# Altium footprint library PcbLib1.PcbLib: 22 footprints (part 1 of 2)
Each footprint in its own frame and in the unit in brackets; x right, y up, seen from the top. Pads: shape width x height; smd on the part's side, far side on the other; paste and mask are expansions set on the pad; w line width, h text height; cw(c..) or ccw(c..) is an arc to the next point about the centre after c.
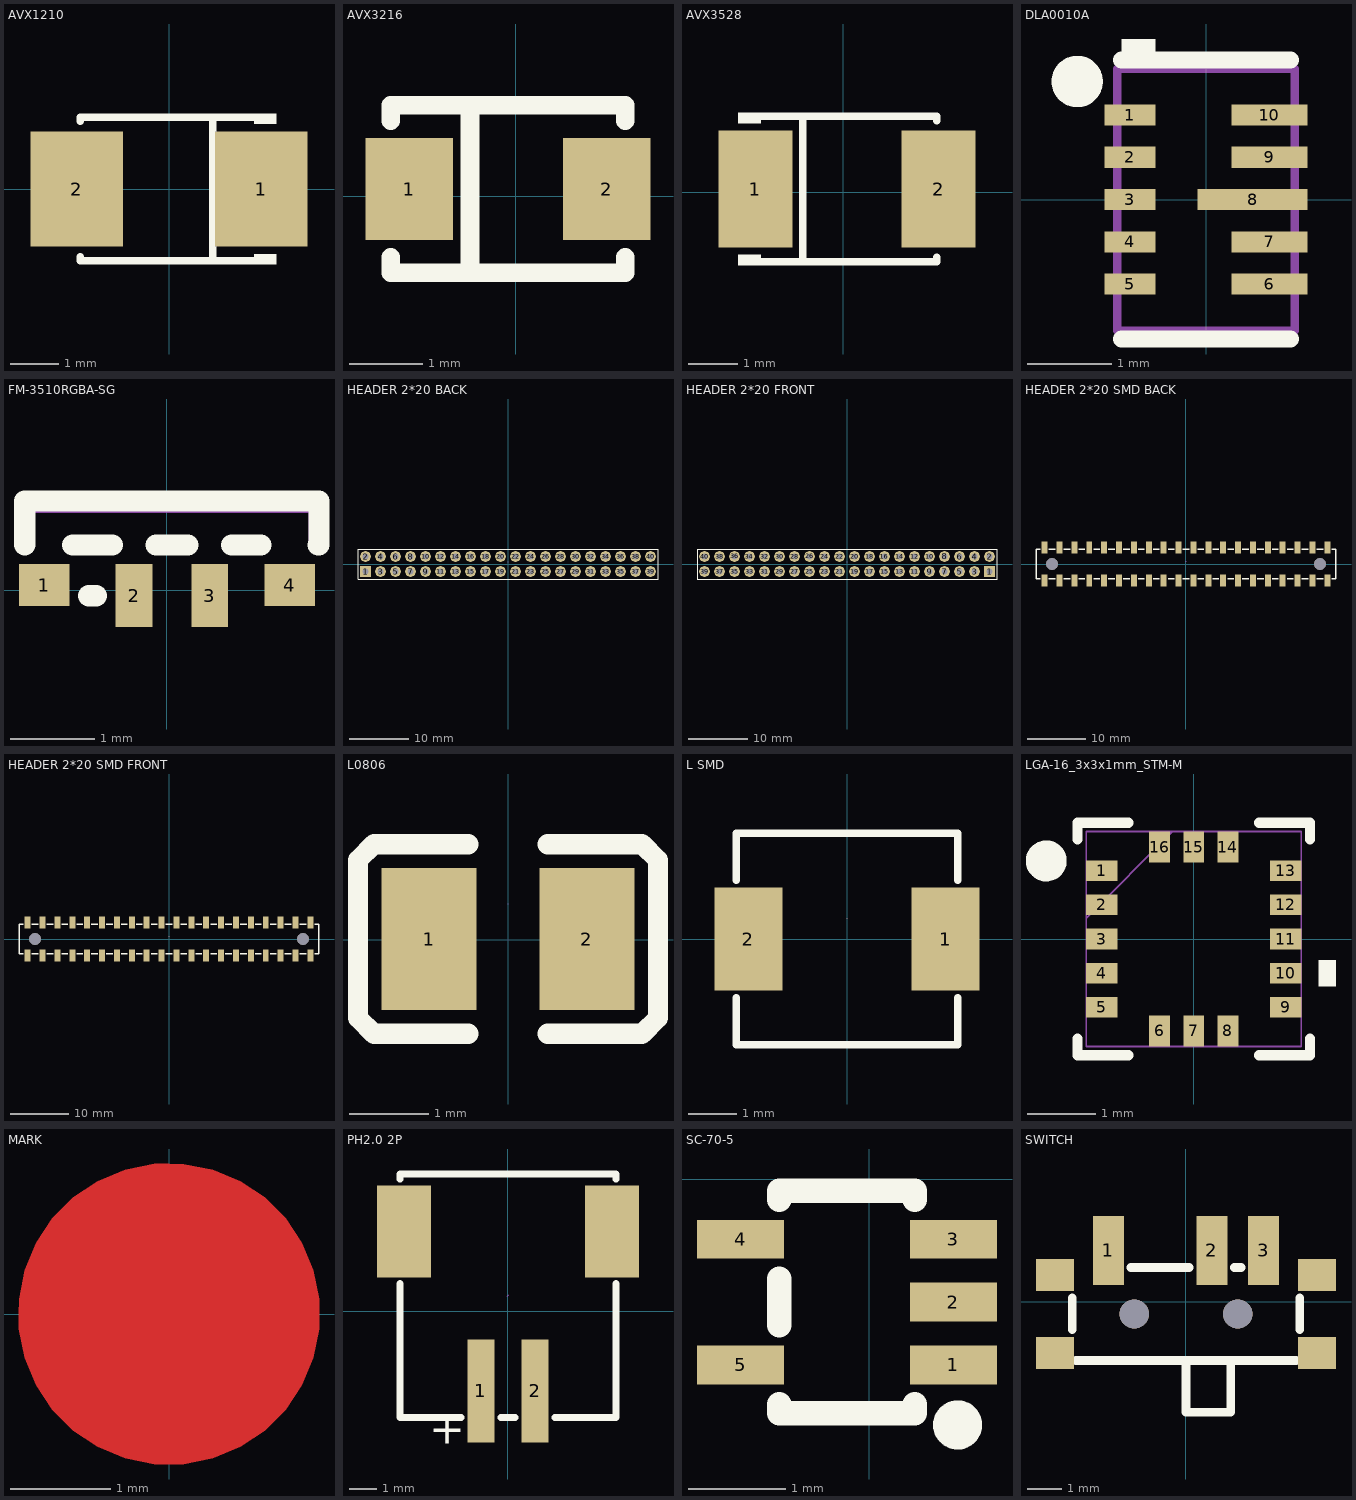
[diagram p0: the footprints below, top view; thin cyan lines are the x and y axes]

## AVX1210 [mm] "https://item.szlcsc.com/22760.html"
pads (2):
  rect 1.9x2.376 smd: 1(1.899,0) 2(-1.899,0)
Top Overlay:
  region: 1.75,1.552 1.75,1.34 2.207,1.34 2.207,1.552
  region: 1.75,-1.552 1.75,-1.34 2.207,-1.34 2.207,-1.552
  lines w0.152: -1.826,-1.391 -1.826,-1.476 1.826,-1.476 ; -1.826,1.391 -1.826,1.476 1.826,1.476 ; 0.904,-1.476 0.904,1.476

## AVX3216 [mm] "https://item.szlcsc.com/269055.html"
pads (2):
  rect 1.2x1.4 smd: 1(-1.456,0.101) 2(1.244,0.101)
Top Overlay:
  lines w0.254: -1.706,-0.83 -1.706,-1.042 -0.234,-1.042 1.494,-1.042 1.494,-0.83 ; -1.706,1.032 -1.706,1.244 1.494,1.244 1.494,1.032 ; -0.626,-1.042 -0.626,1.244

## AVX3528 [mm]
pads (2):
  rect 1.506x2.376 smd: 1(-1.781,0.07) 2(1.94,0.07)
Top Overlay:
  region: -1.671,1.623 -1.671,1.411 -2.128,1.411 -2.128,1.623
  region: -1.671,-1.482 -1.671,-1.27 -2.128,-1.27 -2.128,-1.482
  lines w0.152: -1.747,-1.406 1.906,-1.406 1.906,-1.321 ; -1.747,1.547 1.906,1.547 1.906,1.462 ; -0.825,-1.406 -0.825,1.547

## DLA0010A [mm]
pads (10):
  rect 0.6x0.25 smd paste+0 mask+0: 1(-0.9,1) 2(-0.9,0.5) 3(-0.9,0) 4(-0.9,-0.5) 5(-0.9,-1)
  rect 0.9x0.25 smd paste+0 mask+0: 6(0.75,-1) 7(0.75,-0.5) 9(0.75,0.5) 10(0.75,1)
  rect 1.3x0.25 smd paste-0.637 mask+0: 8(0.55,0)
Top Overlay:
  circle w0.308: c-1.524,1.397 r0.15
  region: -1,1.9 -1,1.65 -0.6,1.65 -0.6,1.9
  lines w0.2: -1,-1.65 1,-1.65 ; -1,1.65 1,1.65
Top Paste:
  region: -0.05,-0.125 -0.1,-0.075 -0.1,0.075 -0.05,0.125 0.4,0.125 0.45,0.075 0.45,-0.075 0.4,-0.125
  region: 0.7,-0.125 0.65,-0.075 0.65,0.075 0.7,0.125 1.15,0.125 1.2,0.075 1.2,-0.075 1.15,-0.125
Mechanical 13:
  lines w0.1: -1.05,-1.55 1.05,-1.55 1.05,1.55 -1.05,1.55 -1.05,-1.55

## FM-3510RGBA-SG [mm] "https://item.szlcsc.com/775226.html"
pads (4):
  rect 0.6x0.5 smd: 1(-1.46,0.062) 4(1.46,0.062)
  rect 0.44x0.75 smd: 2(-0.39,-0.062) 3(0.51,-0.062)
Top Overlay:
  lines w0.254: -1.69,0.543 -1.69,0.908 -1.69,1.063 1.81,1.062 1.81,0.538 1.799,0.538 ; -1.121,0.538 -0.65,0.538 ; -0.929,-0.065 -0.841,-0.065 ; -0.13,0.538 0.25,0.538 ; 0.77,0.538 1.121,0.538
Mechanical 15:
  region: 1.75,0.54 1.75,0.97 -1.75,0.97 -1.75,0.54 -1.71,0.54 -1.71,0.92 1.69,0.92 1.69,0.54

## HEADER 2*20 BACK [mm] "https://item.szlcsc.com/2784386.html"
pads (40):
  rect 1.8x1.8 hole 1.1: 1(-24.13,-1.27)
  round 1.8 hole 1.1: 2(-24.13,1.27) 3(-21.59,-1.27) 4(-21.59,1.27) 5(-19.05,-1.27) 6(-19.05,1.27) 7(-16.51,-1.27) 8(-16.51,1.27) 9(-13.97,-1.27) 10(-13.97,1.27) 11(-11.43,-1.27) 12(-11.43,1.27) 13(-8.89,-1.27) 14(-8.89,1.27) 15(-6.35,-1.27) 16(-6.35,1.27) 17(-3.81,-1.27) 18(-3.81,1.27) 19(-1.27,-1.27) 20(-1.27,1.27) 21(1.27,-1.27) 22(1.27,1.27) 23(3.81,-1.27) 24(3.81,1.27) 25(6.35,-1.27) 26(6.35,1.27) 27(8.89,-1.27) 28(8.89,1.27) 29(11.43,-1.27) 30(11.43,1.27) 31(13.97,-1.27) 32(13.97,1.27) 33(16.51,-1.27) 34(16.51,1.27) 35(19.05,-1.27) 36(19.05,1.27) 37(21.59,-1.27) 38(21.59,1.27) 39(24.13,-1.27) 40(24.13,1.27)
Top Overlay:
  lines w0.203: -25.4,-2.54 -25.4,2.54 25.4,2.54 25.4,-2.54 -25.4,-2.54
Mechanical 15:
  lines w0.003: 0,0.362 0,0.362

## HEADER 2*20 FRONT [mm] "https://item.szlcsc.com/2784386.html"
pads (40):
  rect 1.8x1.8 hole 1.1: 1(24.13,-1.27)
  round 1.8 hole 1.1: 2(24.13,1.27) 3(21.59,-1.27) 4(21.59,1.27) 5(19.05,-1.27) 6(19.05,1.27) 7(16.51,-1.27) 8(16.51,1.27) 9(13.97,-1.27) 10(13.97,1.27) 11(11.43,-1.27) 12(11.43,1.27) 13(8.89,-1.27) 14(8.89,1.27) 15(6.35,-1.27) 16(6.35,1.27) 17(3.81,-1.27) 18(3.81,1.27) 19(1.27,-1.27) 20(1.27,1.27) 21(-1.27,-1.27) 22(-1.27,1.27) 23(-3.81,-1.27) 24(-3.81,1.27) 25(-6.35,-1.27) 26(-6.35,1.27) 27(-8.89,-1.27) 28(-8.89,1.27) 29(-11.43,-1.27) 30(-11.43,1.27) 31(-13.97,-1.27) 32(-13.97,1.27) 33(-16.51,-1.27) 34(-16.51,1.27) 35(-19.05,-1.27) 36(-19.05,1.27) 37(-21.59,-1.27) 38(-21.59,1.27) 39(-24.13,-1.27) 40(-24.13,1.27)
Top Overlay:
  lines w0.203: -25.4,-2.54 -25.4,2.54 25.4,2.54 25.4,-2.54 -25.4,-2.54
Mechanical 15:
  lines w0.003: 0,0.362 0,0.362

## HEADER 2*20 SMD BACK [mm] "https://item.szlcsc.com/2784386.html"
pads (42):
  rect 1.02x2 smd: 1(-24.13,-2.8) 2(-24.13,2.8) 3(-21.59,-2.8) 4(-21.59,2.8) 5(-19.05,-2.8) 6(-19.05,2.8) 7(-16.51,-2.8) 8(-16.51,2.8) 9(-13.97,-2.8) 10(-13.97,2.8) 11(-11.43,-2.8) 12(-11.43,2.8) 13(-8.89,-2.8) 14(-8.89,2.8) 15(-6.35,-2.8) 16(-6.35,2.8) 17(-3.81,-2.8) 18(-3.81,2.8) 19(-1.27,-2.8) 20(-1.27,2.8) 21(1.27,-2.8) 22(1.27,2.8) 23(3.81,-2.8) 24(3.81,2.8) 25(6.35,-2.8) 26(6.35,2.8) 27(8.89,-2.8) 28(8.89,2.8) 29(11.43,-2.8) 30(11.43,2.8) 31(13.97,-2.8) 32(13.97,2.8) 33(16.51,-2.8) 34(16.51,2.8) 35(19.05,-2.8) 36(19.05,2.8) 37(21.59,-2.8) 38(21.59,2.8) 39(24.13,-2.8) 40(24.13,2.8)
  round 2 hole 2 unplated: ""(-22.86,0) ""(22.86,0)
Top Overlay:
  lines w0.254: -24.871,-2.54 -25.6,-2.54 -25.6,2.54 -24.871,2.54 ; -23.389,-2.54 -22.331,-2.54 ; -23.389,2.54 -22.331,2.54 ; -20.849,-2.54 -19.791,-2.54 ; -20.849,2.54 -19.791,2.54 ; -18.309,-2.54 -17.251,-2.54 ; -18.309,2.54 -17.251,2.54 ; -15.769,-2.54 -14.711,-2.54 ; -15.769,2.54 -14.711,2.54 ; -13.229,-2.54 -12.171,-2.54 ; -13.229,2.54 -12.171,2.54 ; -10.689,-2.54 -9.631,-2.54 ; -10.689,2.54 -9.631,2.54 ; -8.149,-2.54 -7.091,-2.54 ; -8.149,2.54 -7.091,2.54 ; -5.609,-2.54 -4.551,-2.54 ; -5.609,2.54 -4.551,2.54 ; -3.069,-2.54 -2.011,-2.54 ; -3.069,2.54 -2.011,2.54 ; -0.529,-2.54 0.529,-2.54 ; -0.529,2.54 0.529,2.54 ; 2.011,-2.54 3.069,-2.54 ; 2.011,2.54 3.069,2.54 ; 4.551,-2.54 5.609,-2.54 ; 4.551,2.54 5.609,2.54 ; 7.091,-2.54 8.149,-2.54 ; 7.091,2.54 8.149,2.54 ; 9.631,-2.54 10.689,-2.54 ; 9.631,2.54 10.689,2.54 ; 12.171,-2.54 13.229,-2.54 ; 12.171,2.54 13.229,2.54 ; 14.711,-2.54 15.769,-2.54 ; 14.711,2.54 15.769,2.54 ; 17.251,-2.54 18.309,-2.54 ; 17.251,2.54 18.309,2.54 ; 19.791,-2.54 20.849,-2.54 ; 19.791,2.54 20.849,2.54 ; 22.331,-2.54 23.389,-2.54 ; 22.331,2.54 23.389,2.54 ; 24.871,-2.54 25.6,-2.54 25.6,2.54 ; 24.871,2.54 25.6,2.54
Mechanical 15:
  lines w0.003: 0,0.46 0,0.46

## HEADER 2*20 SMD FRONT [mm] "https://item.szlcsc.com/2784386.html"
pads (42):
  rect 1.02x2 smd: 1(24.13,-2.8) 2(24.13,2.8) 3(21.59,-2.8) 4(21.59,2.8) 5(19.05,-2.8) 6(19.05,2.8) 7(16.51,-2.8) 8(16.51,2.8) 9(13.97,-2.8) 10(13.97,2.8) 11(11.43,-2.8) 12(11.43,2.8) 13(8.89,-2.8) 14(8.89,2.8) 15(6.35,-2.8) 16(6.35,2.8) 17(3.81,-2.8) 18(3.81,2.8) 19(1.27,-2.8) 20(1.27,2.8) 21(-1.27,-2.8) 22(-1.27,2.8) 23(-3.81,-2.8) 24(-3.81,2.8) 25(-6.35,-2.8) 26(-6.35,2.8) 27(-8.89,-2.8) 28(-8.89,2.8) 29(-11.43,-2.8) 30(-11.43,2.8) 31(-13.97,-2.8) 32(-13.97,2.8) 33(-16.51,-2.8) 34(-16.51,2.8) 35(-19.05,-2.8) 36(-19.05,2.8) 37(-21.59,-2.8) 38(-21.59,2.8) 39(-24.13,-2.8) 40(-24.13,2.8)
  round 2 hole 2 unplated: ""(-22.86,0) ""(22.86,0)
Top Overlay:
  lines w0.254: -25.6,2.54 -24.871,2.54 ; -25.6,2.54 -25.6,-2.54 -24.871,-2.54 ; -23.389,-2.54 -22.331,-2.54 ; -23.389,2.54 -22.331,2.54 ; -20.849,-2.54 -19.791,-2.54 ; -20.849,2.54 -19.791,2.54 ; -18.309,-2.54 -17.251,-2.54 ; -18.309,2.54 -17.251,2.54 ; -15.769,-2.54 -14.711,-2.54 ; -15.769,2.54 -14.711,2.54 ; -13.229,-2.54 -12.171,-2.54 ; -13.229,2.54 -12.171,2.54 ; -10.689,-2.54 -9.631,-2.54 ; -10.689,2.54 -9.631,2.54 ; -8.149,-2.54 -7.091,-2.54 ; -8.149,2.54 -7.091,2.54 ; -5.609,-2.54 -4.551,-2.54 ; -5.609,2.54 -4.551,2.54 ; -3.069,-2.54 -2.011,-2.54 ; -3.069,2.54 -2.011,2.54 ; -0.529,-2.54 0.529,-2.54 ; -0.529,2.54 0.529,2.54 ; 2.011,-2.54 3.069,-2.54 ; 2.011,2.54 3.069,2.54 ; 4.551,-2.54 5.609,-2.54 ; 4.551,2.54 5.609,2.54 ; 7.091,-2.54 8.149,-2.54 ; 7.091,2.54 8.149,2.54 ; 9.631,-2.54 10.689,-2.54 ; 9.631,2.54 10.689,2.54 ; 12.171,-2.54 13.229,-2.54 ; 12.171,2.54 13.229,2.54 ; 14.711,-2.54 15.769,-2.54 ; 14.711,2.54 15.769,2.54 ; 17.251,-2.54 18.309,-2.54 ; 17.251,2.54 18.309,2.54 ; 19.791,-2.54 20.849,-2.54 ; 19.791,2.54 20.849,2.54 ; 22.331,-2.54 23.389,-2.54 ; 22.331,2.54 23.389,2.54 ; 24.871,-2.54 25.6,-2.54 25.6,2.54 24.871,2.54
Mechanical 15:
  lines w0.003: 0,0.46 0,0.46

## L0806 [mm]
pads (2):
  rect 1.2x1.8 smd: 1(-1,0.01) 2(1,0.01)
Top Overlay:
  lines w0.254: -0.5,-1.19 -1.55,-1.19 -1.7,-1.19 -1.9,-0.99 -1.9,1.01 -1.7,1.21 -1.55,1.21 -0.5,1.21 ; 0.5,-1.19 1.55,-1.19 1.7,-1.19 1.9,-0.99 1.9,1.01 1.7,1.21 1.55,1.21 0.5,1.21
Mechanical 15:
  lines w0.003: -0.001,0.457 0,0.458

## L SMD [mm] "https://item.szlcsc.com/397734.html"
pads (2):
  rect 1.4x2.12 smd: 1(2.028,0) 2(-2.028,0)
Top Overlay:
  lines w0.152: -2.276,-1.212 -2.276,-2.176 2.276,-2.176 2.276,-1.212 ; -2.276,1.212 -2.276,2.176 2.276,2.176 2.276,1.212
Mechanical 15:
  lines w0.003: 0,0.429 0,0.43

## LGA-16_3x3x1mm_STM-M [mil]
pads (16):
  rect 17.94x11.97 smd paste+0 mask+0: 1(-53,39.37) 2(-53,19.68) 3(-53,0) 4(-53,-19.68) 5(-53,-39.37) 9(53,-39.37) 10(53,-19.68) 11(53,0) 12(53,19.68) 13(53,39.37)
  rect 11.97x17.94 smd paste+0 mask+0: 6(-19.68,-53) 7(0,-53) 8(19.68,-53) 14(19.68,53) 15(0,53) 16(-19.68,53)
Top Overlay:
  circle w11.81: c-85,45 r5.91
  region: 71.97,-12.19 81.97,-12.19 81.97,-27.18 71.97,-27.18
  lines w6: -67,-57.45 -67,-67 -37.76,-67 ; -67,57.45 -67,67 -37.76,67 ; 37.76,-67 67,-67 67,-57.45 ; 37.76,67 67,67 67,57.45
Mechanical 13:
  lines w1: -62,12 -12,62 ; -62,-62 -62,62 62,62 62,-62 -62,-62
3D body: height 10, standoff 0, extent 0,0 10,10
3D body "LGA-16_3x3x1mm_STM.step": height 39.09, standoff 0, extent -62,-62 62.01,62.01

## MARK [mm]
Top Layer:
  pour cut-out: 0,-1.5 -0.148,-1.5 -0.438,-1.442 -0.711,-1.329 -0.956,-1.165 -1.165,-0.956 -1.329,-0.711 -1.442,-0.438 -1.5,-0.148 -1.5,0 -1.5,0.148 -1.442,0.438 -1.329,0.711 -1.165,0.956 -0.956,1.165 -0.711,1.329 -0.438,1.442 -0.148,1.5 0,1.5 0.148,1.5 0.438,1.442 0.711,1.329 0.956,1.165 1.165,0.956 1.329,0.711 1.442,0.438 1.5,0.148 1.5,0 1.5,-0.148 1.442,-0.438 1.329,-0.711 1.165,-0.956 0.956,-1.165 0.711,-1.329 0.438,-1.442 0.148,-1.5
  region: -0.5,0 -0.5,-0.099 -0.424,-0.283 -0.283,-0.424 -0.099,-0.5 0,-0.5 0.099,-0.5 0.283,-0.424 0.424,-0.283 0.5,-0.099 0.5,0 0.5,0.099 0.424,0.283 0.283,0.424 0.099,0.5 0,0.5 -0.099,0.5 -0.283,0.424 -0.424,0.283 -0.5,0.099
Top Solder:
  region: -1.5,0 -1.5,-0.148 -1.442,-0.438 -1.329,-0.711 -1.165,-0.956 -0.956,-1.165 -0.711,-1.329 -0.438,-1.442 -0.148,-1.5 0,-1.5 0.148,-1.5 0.438,-1.442 0.711,-1.329 0.956,-1.165 1.165,-0.956 1.329,-0.711 1.442,-0.438 1.5,-0.148 1.5,0 1.5,0.148 1.442,0.438 1.329,0.711 1.165,0.956 0.956,1.165 0.711,1.329 0.438,1.442 0.148,1.5 0,1.5 -0.148,1.5 -0.438,1.442 -0.711,1.329 -0.956,1.165 -1.165,0.956 -1.329,0.711 -1.442,0.438 -1.5,0.148

## PH2.0 2P [mm] "https://item.szlcsc.com/698563.html"
pads (4):
  rect 1x3.8 smd: 1(-1,-2.95) 2(1,-2.95)
  rect 2x3.4 smd: ""(-3.85,2.95) ""(3.85,2.95)
Top Overlay:
  lines w0.254: -4,1.019 -4,-3.937 -1.731,-3.937 ; -4,4.881 -4,5.08 4,5.08 4,4.881 ; -0.269,-3.937 0.269,-3.937 ; 1.731,-3.937 4,-3.937 4,1.019
  text "+" at -2.921,-5.287 h2
Bottom Overlay:
  text "+" at -2.921,-5.287 h2
Mechanical 15:
  lines w0.003: -0.025,0.551 0.025,0.602

## SC-70-5 [mm] "https://item.szlcsc.com/485828.html"
pads (5):
  rect 0.9x0.4 smd: 1(0.872,-1.92) 2(0.872,-1.27) 3(0.872,-0.62) 4(-1.328,-0.62) 5(-1.328,-1.92)
Top Overlay:
  circle w0.254: c0.915,-2.54 r0.127
  lines w0.254: -0.928,-2.328 -0.928,-2.42 0.472,-2.42 0.472,-2.328 ; -0.928,-1.512 -0.928,-1.028 ; -0.928,-0.212 -0.928,-0.12 0.472,-0.12 0.472,-0.212

## SWITCH [mm]
pads (9):
  rect 0.9x2 smd: 1(-2.25,1.491) 2(0.75,1.491) 3(2.25,1.491)
  rect 1.1x0.93 smd: ""(-3.8,-1.491) ""(-3.8,0.779) ""(3.8,-1.491) ""(3.8,0.779)
  round 0.85 hole 0.85 unplated: ""(-1.5,-0.356) ""(1.5,-0.356)
Top Overlay:
  lines w0.254: -3.3,-0.818 -3.3,0.106 ; -3.2,-1.706 3.2,-1.706 ; -1.592,0.994 0.092,0.994 ; 0,-1.706 0,-3.206 1.3,-3.206 1.3,-1.706 ; 1.408,0.994 1.592,0.994 ; 3.3,-0.818 3.3,0.106
Mechanical 15:
  circle w0.35: c1.5,-0.356 r0.175
  circle w0.35: c-1.5,-0.356 r0.175